# Altium footprint library Miscellaneous Connectors.PcbLib: 191 footprints (part 11 of 12)
Each footprint in its own frame and in the unit in brackets; x right, y up, seen from the top. Pads: shape width x height; smd on the part's side, far side on the other; paste and mask are expansions set on the pad; w line width, h text height; cw(c..) or ccw(c..) is an arc to the next point about the centre after c.
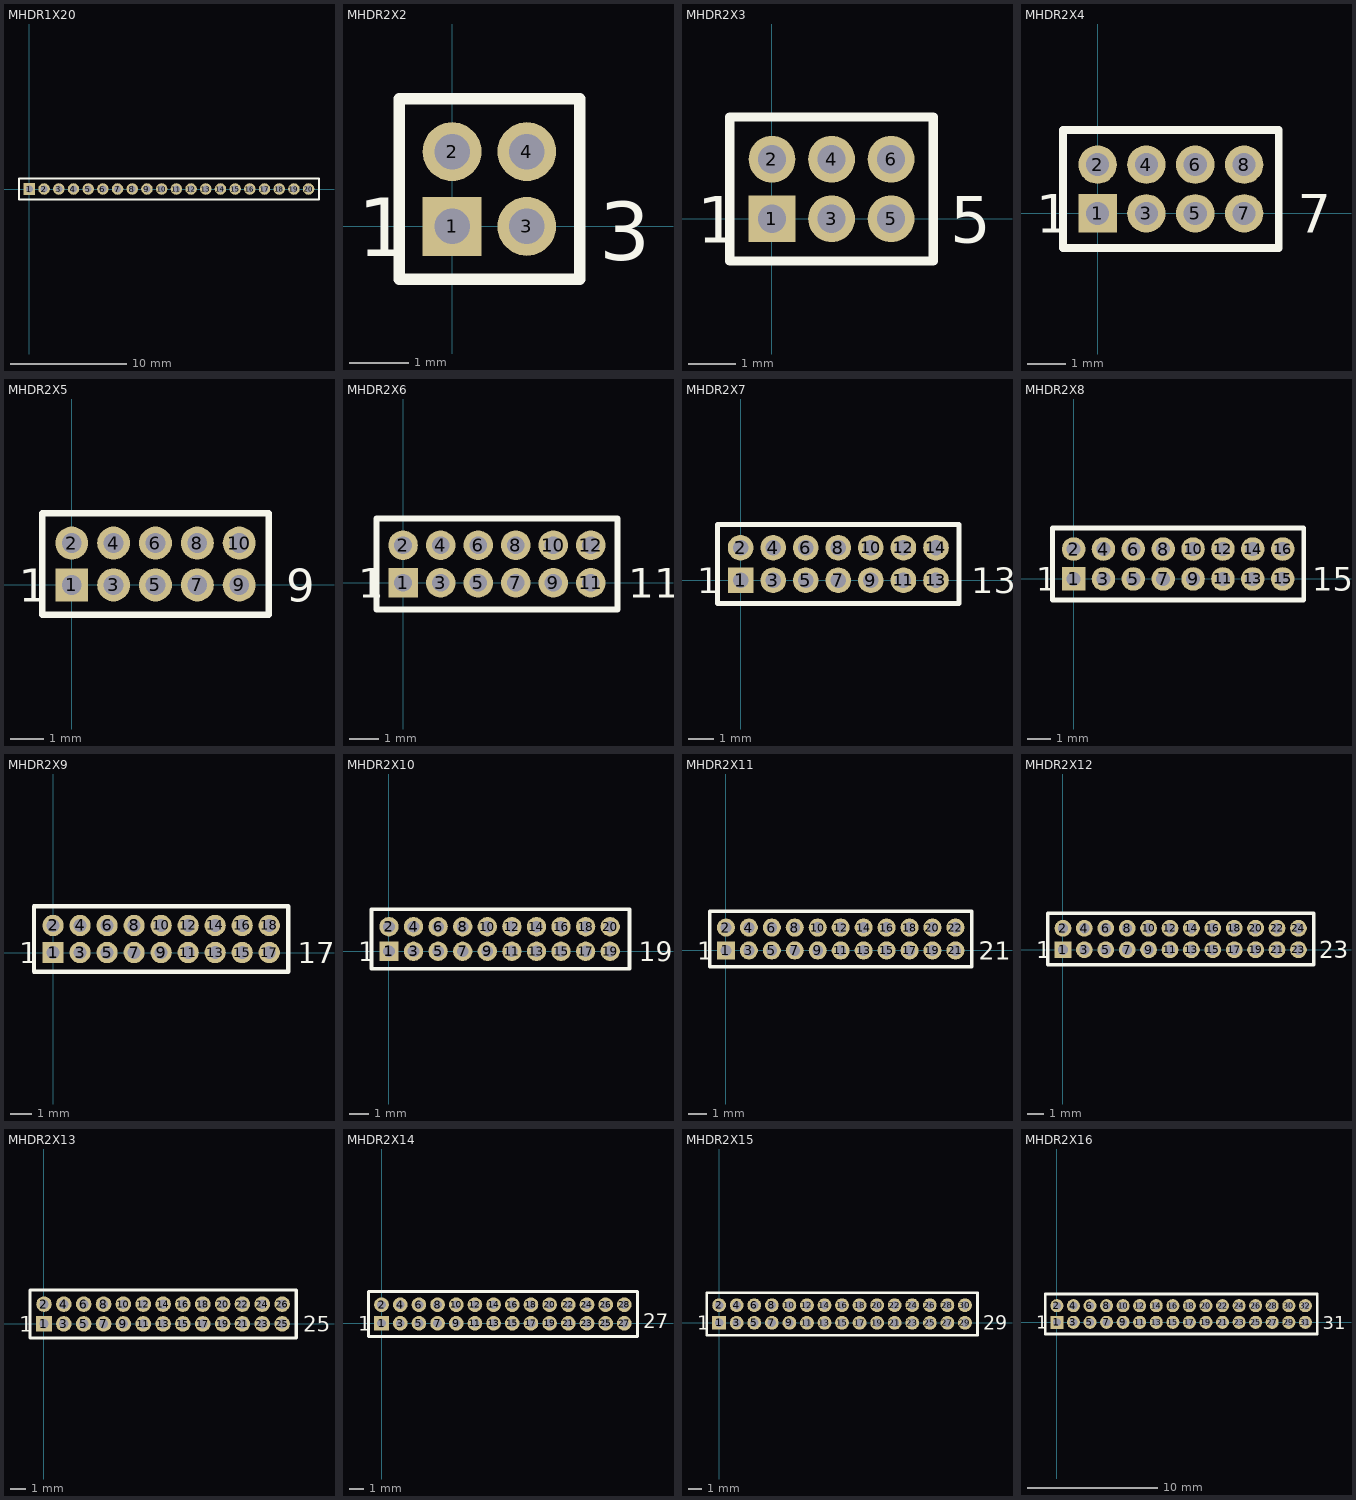
[diagram p10: the footprints below, top view; thin cyan lines are the x and y axes]

## MHDR1X20 [mm] "Connector; Header; 20 Position"
pads (20):
  rect 1x1 hole 0.6: 1(0,0)
  round 1 hole 0.6: 2(1.27,0) 3(2.54,0) 4(3.81,0) 5(5.08,0) 6(6.35,0) 7(7.62,0) 8(8.89,0) 9(10.16,0) 10(11.43,0) 11(12.7,0) 12(13.97,0) 13(15.24,0) 14(16.51,0) 15(17.78,0) 16(19.05,0) 17(20.32,0) 18(21.59,0) 19(22.86,0) 20(24.13,0)
Top Overlay:
  lines w0.2: -0.9,-0.9 -0.9,0.9 25.03,0.9 25.03,-0.9 -0.9,-0.9

## MHDR2X2 [mm] "Connector; Header; 2x2 Position"
pads (4):
  rect 1x1 hole 0.6: 1(0,0)
  round 1 hole 0.6: 2(0,1.27) 3(1.27,0) 4(1.27,1.27)
Top Overlay:
  lines w0.2: -0.9,-0.9 2.17,-0.9 2.17,2.17 -0.9,2.17 -0.9,-0.9
  text "3" at 2.5,-0.578 h1
  text "1" at -1.6,-0.508 h1

## MHDR2X3 [mm] "Connector; Header; 3x2 Position"
pads (6):
  rect 1x1 hole 0.6: 1(0,0)
  round 1 hole 0.6: 2(0,1.27) 3(1.27,0) 4(1.27,1.27) 5(2.54,0) 6(2.54,1.27)
Top Overlay:
  lines w0.2: -0.9,-0.9 3.44,-0.9 3.44,2.17 -0.9,2.17 -0.9,-0.9
  text "1" at -1.6,-0.508 h1
  text "5" at 3.8,-0.508 h1

## MHDR2X4 [mm] "Connector; Header; 4x2 Position"
pads (8):
  rect 1x1 hole 0.6: 1(0,0)
  round 1 hole 0.6: 2(0,1.27) 3(1.27,0) 4(1.27,1.27) 5(2.54,0) 6(2.54,1.27) 7(3.81,0) 8(3.81,1.27)
Top Overlay:
  lines w0.2: -0.9,-0.9 -0.9,2.17 4.71,2.17 4.71,-0.9 -0.9,-0.9
  text "7" at 5.2,-0.508 h1
  text "1" at -1.6,-0.508 h1

## MHDR2X5 [mm] "Connector; Header; 5x2 Position"
pads (10):
  rect 1x1 hole 0.6: 1(0,0)
  round 1 hole 0.6: 2(0,1.27) 3(1.27,0) 4(1.27,1.27) 5(2.54,0) 6(2.54,1.27) 7(3.81,0) 8(3.81,1.27) 9(5.08,0) 10(5.08,1.27)
Top Overlay:
  lines w0.2: -0.9,-0.9 -0.9,2.17 5.98,2.17 5.98,-0.9 -0.9,-0.9
  text "9" at 6.5,-0.508 h1
  text "1" at -1.6,-0.508 h1

## MHDR2X6 [mm] "Connector; Header; 6x2 Position"
pads (12):
  rect 1x1 hole 0.6: 1(0,0)
  round 1 hole 0.6: 2(0,1.27) 3(1.27,0) 4(1.27,1.27) 5(2.54,0) 6(2.54,1.27) 7(3.81,0) 8(3.81,1.27) 9(5.08,0) 10(5.08,1.27) 11(6.35,0) 12(6.35,1.27)
Top Overlay:
  lines w0.2: -0.9,-0.9 7.25,-0.9 7.25,2.17 -0.9,2.17 -0.9,-0.9
  text "1" at -1.524,-0.508 h1
  text "11" at 7.62,-0.508 h1

## MHDR2X7 [mm] "Connector; Header; 7x2 Position"
pads (14):
  rect 1x1 hole 0.6: 1(0,0)
  round 1 hole 0.6: 2(0,1.27) 3(1.27,0) 4(1.27,1.27) 5(2.54,0) 6(2.54,1.27) 7(3.81,0) 8(3.81,1.27) 9(5.08,0) 10(5.08,1.27) 11(6.35,0) 12(6.35,1.27) 13(7.62,0) 14(7.62,1.27)
Top Overlay:
  lines w0.2: -0.9,-0.9 -0.9,2.17 8.52,2.17 8.52,-0.9 -0.9,-0.9
  text "13" at 9,-0.508 h1
  text "1" at -1.7,-0.508 h1

## MHDR2X8 [mm] "Connector; Header; 8x2 Position"
pads (16):
  rect 1x1 hole 0.6: 1(0,0)
  round 1 hole 0.6: 2(0,1.27) 3(1.27,0) 4(1.27,1.27) 5(2.54,0) 6(2.54,1.27) 7(3.81,0) 8(3.81,1.27) 9(5.08,0) 10(5.08,1.27) 11(6.35,0) 12(6.35,1.27) 13(7.62,0) 14(7.62,1.27) 15(8.89,0) 16(8.89,1.27)
Top Overlay:
  lines w0.2: -0.9,-0.9 9.79,-0.9 9.79,2.17 -0.9,2.17 -0.9,-0.9
  text "1" at -1.6,-0.508 h1
  text "15" at 10.16,-0.508 h1

## MHDR2X9 [mm] "Connector; Header; 9x2 Position"
pads (18):
  rect 1x1 hole 0.6: 1(0,0)
  round 1 hole 0.6: 2(0,1.27) 3(1.27,0) 4(1.27,1.27) 5(2.54,0) 6(2.54,1.27) 7(3.81,0) 8(3.81,1.27) 9(5.08,0) 10(5.08,1.27) 11(6.35,0) 12(6.35,1.27) 13(7.62,0) 14(7.62,1.27) 15(8.89,0) 16(8.89,1.27) 17(10.16,0) 18(10.16,1.27)
Top Overlay:
  lines w0.2: -0.9,-0.9 11.06,-0.9 11.06,2.17 -0.9,2.17 -0.9,-0.9
  text "1" at -1.6,-0.508 h1
  text "17" at 11.5,-0.508 h1

## MHDR2X10 [mm] "Connector; Header; 10x2 Position"
pads (20):
  rect 1x1 hole 0.6: 1(0,0)
  round 1 hole 0.6: 2(0,1.27) 3(1.27,0) 4(1.27,1.27) 5(2.54,0) 6(2.54,1.27) 7(3.81,0) 8(3.81,1.27) 9(5.08,0) 10(5.08,1.27) 11(6.35,0) 12(6.35,1.27) 13(7.62,0) 14(7.62,1.27) 15(8.89,0) 16(8.89,1.27) 17(10.16,0) 18(10.16,1.27) 19(11.43,0) 20(11.43,1.27)
Top Overlay:
  lines w0.2: -0.9,-0.9 -0.9,2.17 12.43,2.17 12.43,-0.9 -0.9,-0.9
  text "19" at 12.9,-0.508 h1
  text "1" at -1.6,-0.508 h1

## MHDR2X11 [mm] "Connector; Header; 11x2 Position"
pads (22):
  rect 1x1 hole 0.6: 1(0,0)
  round 1 hole 0.6: 2(0,1.27) 3(1.27,0) 4(1.27,1.27) 5(2.54,0) 6(2.54,1.27) 7(3.81,0) 8(3.81,1.27) 9(5.08,0) 10(5.08,1.27) 11(6.35,0) 12(6.35,1.27) 13(7.62,0) 14(7.62,1.27) 15(8.89,0) 16(8.89,1.27) 17(10.16,0) 18(10.16,1.27) 19(11.43,0) 20(11.43,1.27) 21(12.7,0) 22(12.7,1.27)
Top Overlay:
  lines w0.2: -0.9,-0.9 13.6,-0.9 13.6,2.17 -0.9,2.17 -0.9,-0.9
  text "1" at -1.6,-0.508 h1
  text "21" at 14,-0.508 h1

## MHDR2X12 [mm] "Connector; Header; 12x2 Position"
pads (24):
  rect 1x1 hole 0.6: 1(0,0)
  round 1 hole 0.6: 2(0,1.27) 3(1.27,0) 4(1.27,1.27) 5(2.54,0) 6(2.54,1.27) 7(3.81,0) 8(3.81,1.27) 9(5.08,0) 10(5.08,1.27) 11(6.35,0) 12(6.35,1.27) 13(7.62,0) 14(7.62,1.27) 15(8.89,0) 16(8.89,1.27) 17(10.16,0) 18(10.16,1.27) 19(11.43,0) 20(11.43,1.27) 21(12.7,0) 22(12.7,1.27) 23(13.97,0) 24(13.97,1.27)
Top Overlay:
  lines w0.2: -0.9,-0.9 14.87,-0.9 14.87,2.17 -0.9,2.17 -0.9,-0.9
  text "1" at -1.6,-0.508 h1
  text "23" at 15.2,-0.508 h1

## MHDR2X13 [mm] "Connector; Header; 13x2 Position"
pads (26):
  rect 1x1 hole 0.6: 1(0,0)
  round 1 hole 0.6: 2(0,1.27) 3(1.27,0) 4(1.27,1.27) 5(2.54,0) 6(2.54,1.27) 7(3.81,0) 8(3.81,1.27) 9(5.08,0) 10(5.08,1.27) 11(6.35,0) 12(6.35,1.27) 13(7.62,0) 14(7.62,1.27) 15(8.89,0) 16(8.89,1.27) 17(10.16,0) 18(10.16,1.27) 19(11.43,0) 20(11.43,1.27) 21(12.7,0) 22(12.7,1.27) 23(13.97,0) 24(13.97,1.27) 25(15.24,0) 26(15.24,1.27)
Top Overlay:
  lines w0.2: -0.9,-0.9 16.14,-0.9 16.14,2.17 -0.9,2.17 -0.9,-0.9
  text "1" at -1.6,-0.508 h1
  text "25" at 16.6,-0.508 h1

## MHDR2X14 [mm] "Connector; Header; 14x2 Position"
pads (28):
  rect 1x1 hole 0.6: 1(0,0)
  round 1 hole 0.6: 2(0,1.27) 3(1.27,0) 4(1.27,1.27) 5(2.54,0) 6(2.54,1.27) 7(3.81,0) 8(3.81,1.27) 9(5.08,0) 10(5.08,1.27) 11(6.35,0) 12(6.35,1.27) 13(7.62,0) 14(7.62,1.27) 15(8.89,0) 16(8.89,1.27) 17(10.16,0) 18(10.16,1.27) 19(11.43,0) 20(11.43,1.27) 21(12.7,0) 22(12.7,1.27) 23(13.97,0) 24(13.97,1.27) 25(15.24,0) 26(15.24,1.27) 27(16.51,0) 28(16.51,1.27)
Top Overlay:
  lines w0.2: -0.9,-0.9 -0.9,2.17 17.41,2.17 17.41,-0.9 -0.9,-0.9
  text "27" at 17.8,-0.34 h1
  text "1" at -1.6,-0.508 h1

## MHDR2X15 [mm] "Connector; Header; 15x2 Position"
pads (30):
  rect 1x1 hole 0.6: 1(0,0)
  round 1 hole 0.6: 2(0,1.27) 3(1.27,0) 4(1.27,1.27) 5(2.54,0) 6(2.54,1.27) 7(3.81,0) 8(3.81,1.27) 9(5.08,0) 10(5.08,1.27) 11(6.35,0) 12(6.35,1.27) 13(7.62,0) 14(7.62,1.27) 15(8.89,0) 16(8.89,1.27) 17(10.16,0) 18(10.16,1.27) 19(11.43,0) 20(11.43,1.27) 21(12.7,0) 22(12.7,1.27) 23(13.97,0) 24(13.97,1.27) 25(15.24,0) 26(15.24,1.27) 27(16.51,0) 28(16.51,1.27) 29(17.78,0) 30(17.78,1.27)
Top Overlay:
  lines w0.2: -0.9,-0.9 18.68,-0.9 18.68,2.17 -0.9,2.17 -0.9,-0.9
  text "1" at -1.6,-0.508 h1
  text "29" at 19.1,-0.508 h1

## MHDR2X16 [mm] "Connector; Header; 16x2 Position"
pads (32):
  rect 1x1 hole 0.6: 1(0,0)
  round 1 hole 0.6: 2(0,1.27) 3(1.27,0) 4(1.27,1.27) 5(2.54,0) 6(2.54,1.27) 7(3.81,0) 8(3.81,1.27) 9(5.08,0) 10(5.08,1.27) 11(6.35,0) 12(6.35,1.27) 13(7.62,0) 14(7.62,1.27) 15(8.89,0) 16(8.89,1.27) 17(10.16,0) 18(10.16,1.27) 19(11.43,0) 20(11.43,1.27) 21(12.7,0) 22(12.7,1.27) 23(13.97,0) 24(13.97,1.27) 25(15.24,0) 26(15.24,1.27) 27(16.51,0) 28(16.51,1.27) 29(17.78,0) 30(17.78,1.27) 31(19.05,0) 32(19.05,1.27)
Top Overlay:
  lines w0.2: -0.9,-0.9 19.95,-0.9 19.95,2.17 -0.9,2.17 -0.9,-0.9
  text "1" at -1.6,-0.508 h1
  text "31" at 20.4,-0.522 h1